# Altium schematic symbol library MICRF220AYQS.SchLib: 1 symbol
Pins are listed as number, name and electrical type; pins without a type are passive.

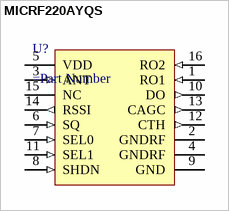
[diagram p0: symbol MICRF220AYQS]

## MICRF220AYQS
designator U?
=Description
pins: 1 RO1 (in), 2 GNDRF (power), 3 ANT (in), 4 GNDRF (power), 5 VDD (power), 6 SQ (in), 7 SEL0 (in), 8 SHDN (in), 9 GND (power), 10 DO (out), 11 SEL1 (in), 12 CTH (out), 13 CAGC (out), 14 RSSI (out), 15 NC, 16 RO2 (in)